# Altium footprint library RD_PCB_TEST.PcbLib: 37 footprints (part 1 of 3)
Each footprint in its own frame and in the unit in brackets; x right, y up, seen from the top. Pads: shape width x height; smd on the part's side, far side on the other; paste and mask are expansions set on the pad; w line width, h text height; cw(c..) or ccw(c..) is an arc to the next point about the centre after c.
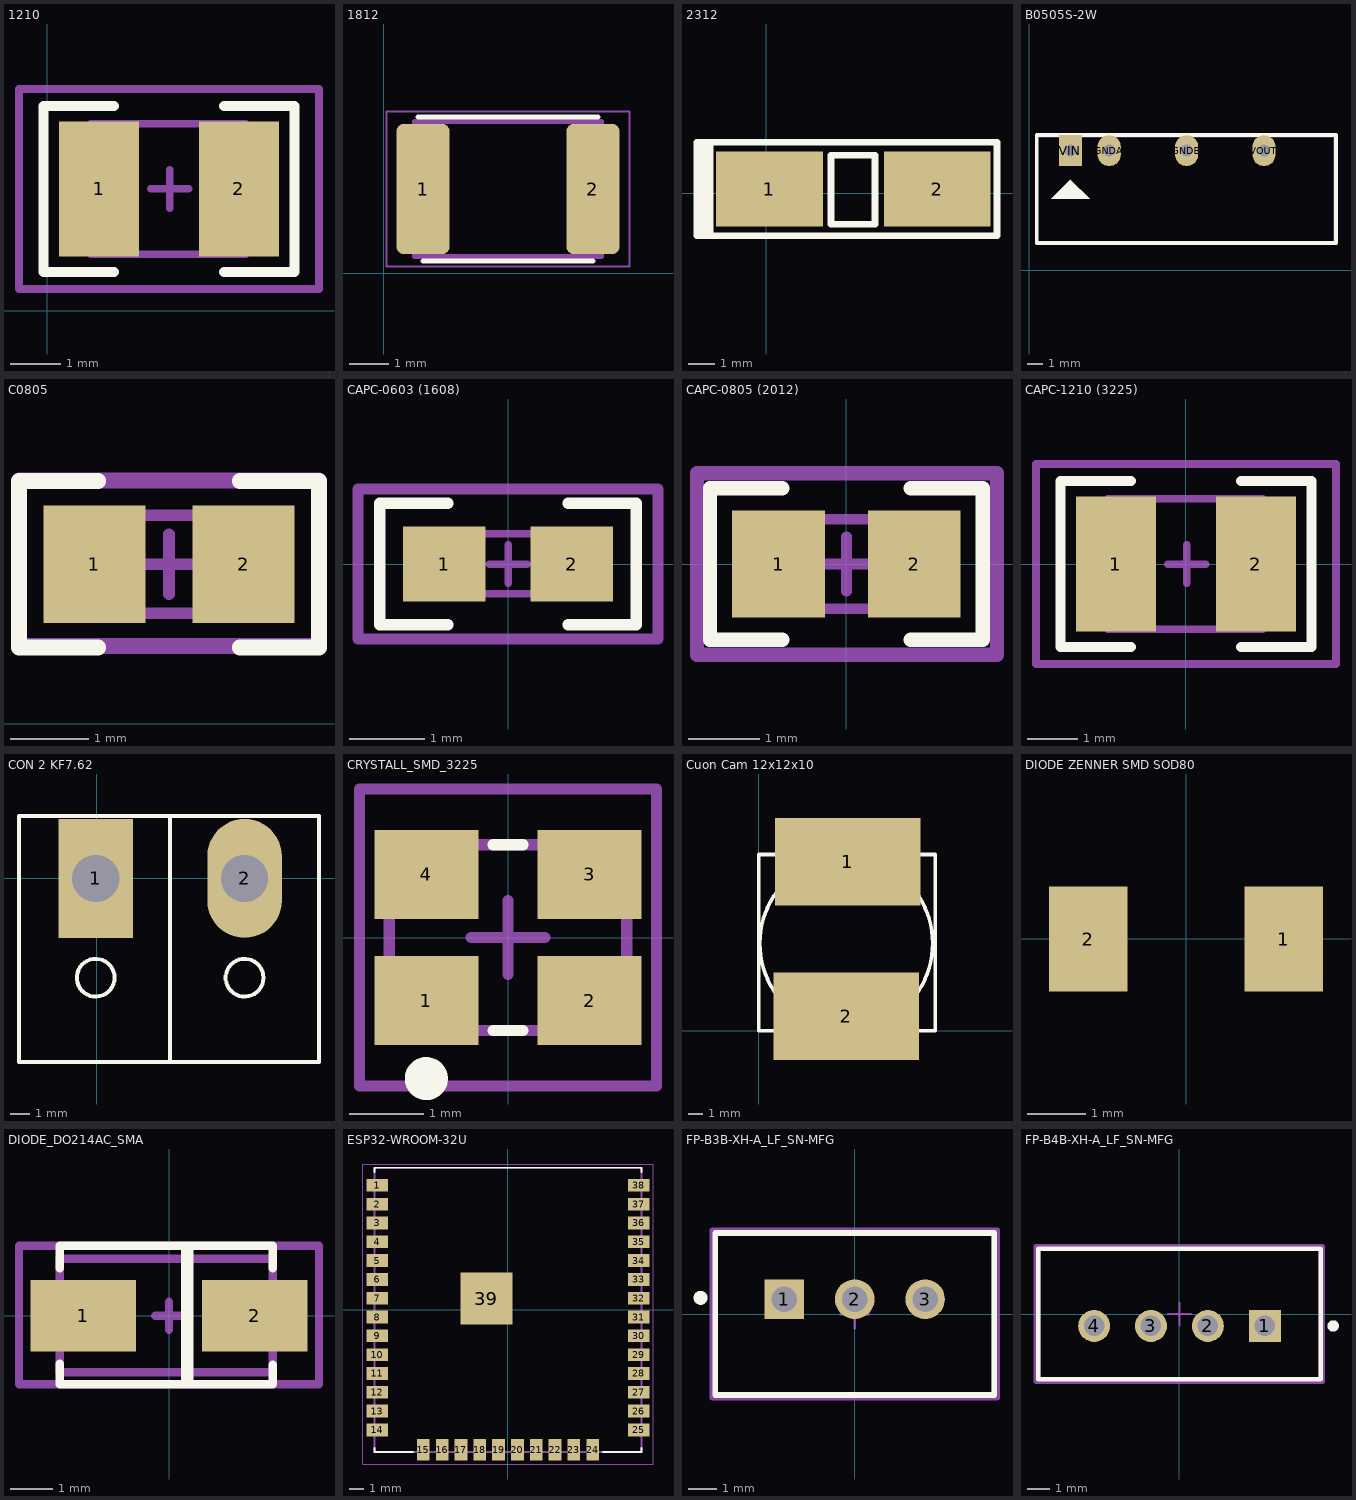
[diagram p0: the footprints below, top view; thin cyan lines are the x and y axes]

## 1210 [mm]
height 0.55
pads (2):
  rect 1.6x2.7 smd: 1(1.038,2.438) 2(3.838,2.438)
Top Overlay:
  lines w0.2: 1.338,0.778 -0.072,0.778 -0.072,4.098 1.338,4.098 ; 3.538,0.778 4.948,0.778 4.948,4.098 3.538,4.098
Top 3D Body:
  lines w0.15: 2.07,2.438 2.832,2.438 ; 2.451,2.057 2.451,2.819 ; 0.876,1.138 3.976,1.138 3.976,3.738 0.876,3.738 0.876,1.138
Top Courtyard:
  lines w0.158: -0.562,0.438 5.438,0.438 5.438,4.438 -0.562,4.438 -0.562,0.438
3D body "User Library-CAPC3225X13.STEP": height 1.3, standoff 0, extent 0.851,1.176 4.051,3.676

## 1812 [mm]
height 0.55
pads (2):
  rrect25% 1.34x3.29 smd: 1(1,2.134) 2(5.3,2.134)
Top Overlay:
  lines w0.127: 0.87,3.959 5.43,3.959 ; 1,0.309 5.3,0.309
Top 3D Body:
  lines w0.127: 0.78,0.424 5.52,0.424 5.52,3.844 0.78,3.844 0.78,0.424
Top Courtyard:
  lines w0.05: 0.08,0.174 6.22,0.174 6.22,4.094 0.08,4.094 0.08,0.174
3D body "step_temp.STEP": height 1.25, standoff 0, extent 0.875,0.514 5.425,3.754

## 2312 [mm]
height 0.55
pads (2):
  rect 4x2.8 smd: 1(0.127,0.152) 2(6.427,0.152)
Top Overlay:
  lines w0.254: -2.591,-1.6 -2.21,-1.6 ; -2.591,-1.598 -2.591,1.902 ; -2.591,1.905 -2.286,1.905 ; -2.337,-1.598 -2.337,1.902 ; -2.286,-1.598 8.661,-1.598 8.661,1.902 -2.286,1.902 ; -2.108,-1.598 -2.108,1.902 ; 2.438,-1.168 2.438,1.422 4.089,1.422 4.089,-1.168 2.438,-1.168
3D body "CAP_TANT_6032-28_y.step": height 2.79, standoff -0.01, extent 0.127,-1.597 6.427,1.903

## B0505S-2W [mil]
height 21.65
pads (4):
  oval 60x80 hole 31.5: GNDA(207,309) GNDB(407,309) VOUT(607,309)
  rect 60x80 hole 31.5: VIN(107,309)
Top Overlay:
  region: 57,184.43 157,184.43 107,234.43
  lines w10: 20,70.43 793,70.43 793,349.43 20,349.43 20,339.43 20,70.43
Top 3D Body:
  lines w6: 18,70.84 18,346.43 789.65,346.43 789.65,70.84 18,70.84
3D body "MORNSUN_BxxxxS-2WR2.step": height 415, standoff -146.42, extent 21.19,68 794.81,345.56

## C0805 [mm]
height 0.55
pads (2):
  rect 1.3x1.5 smd: 1(2.352,2.032) 2(4.252,2.032)
Top Overlay:
  lines w0.2: 2.402,0.972 1.392,0.972 1.392,3.092 2.402,3.092 ; 4.202,0.972 5.212,0.972 5.212,3.092 4.202,3.092
Top 3D Body:
  lines w0.15: 2.921,2.032 3.683,2.032 ; 3.302,1.651 3.302,2.413 ; 2.299,1.407 2.299,2.657 4.299,2.657 4.299,1.407 2.299,1.407
Top Courtyard:
  lines w0.2: 1.397,0.991 1.397,3.099 5.207,3.099 5.207,0.991 1.397,0.991
3D body "CAPC200X125X70L50.STEP": height 0.7, standoff 0, extent 2.302,1.407 4.302,2.657

## CAPC-0603 (1608) [mm] "Resistor, Chip; 1.60 mm L X 0.80 mm W X 0.50 mm H body"
height 0.5
pads (2):
  rect 1.1x1 smd mask+0.1: 1(-0.85,0) 2(0.85,0)
Top Overlay:
  lines w0.15: -0.8,-0.81 -1.71,-0.81 -1.71,0.81 -0.8,0.81 ; 0.8,-0.81 1.71,-0.81 1.71,0.81 0.8,0.81
Top 3D Body:
  lines w0.1: -0.253,0 0.255,0 ; 0.001,-0.254 0.001,0.254 ; -0.799,-0.4 -0.799,0.4 0.801,0.4 0.801,-0.4 -0.799,-0.4
Top Courtyard:
  lines w0.15: -2,-1 -2,1 2,1 2,-1 -2,-1
  text ".Designator" at -1.015,-0.305 h1.2
3D body "CAPC160X80X60L40.STEP": height 0.6, standoff 0, extent -0.799,-0.4 0.801,0.4

## CAPC-0805 (2012) [mm] "Resistor, Chip; 2.00 mm L X 1.25 mm W X 0.70 mm H body"
height 0.7
pads (2):
  rect 1.3x1.5 smd: 1(-0.95,0) 2(0.95,0)
Top Overlay:
  lines w0.2: -0.9,-1.06 -1.91,-1.06 -1.91,1.06 -0.9,1.06 ; 0.9,-1.06 1.91,-1.06 1.91,1.06 0.9,1.06
Top 3D Body:
  lines w0.15: -0.381,0 0.381,0 ; 0,-0.381 0,0.381 ; -1.003,-0.625 -1.003,0.625 0.997,0.625 0.997,-0.625 -1.003,-0.625
Top Courtyard:
  lines w0.2: -2.093,-1.27 -2.093,1.27 2.108,1.27 2.108,-1.27 -2.093,-1.27
  text ".Designator" at -1.527,-0.381 h0.76
3D body "CAPC200X125X70L50.STEP": height 0.7, standoff 0, extent -1,-0.625 1,0.625

## CAPC-1210 (3225) [mm] "Resistor, Chip; 3.10 mm L X 2.60 mm W X 0.90 mm H body"
height 0.9
pads (2):
  rect 1.6x2.7 smd: 1(-1.4,0) 2(1.4,0)
Top Overlay:
  lines w0.2: -1.1,-1.66 -2.51,-1.66 -2.51,1.66 -1.1,1.66 ; 1.1,-1.66 2.51,-1.66 2.51,1.66 1.1,1.66
Top 3D Body:
  lines w0.15: -0.368,0 0.394,0 ; 0.013,-0.381 0.013,0.381 ; -1.563,-1.3 -1.563,1.3 1.537,1.3 1.537,-1.3 -1.563,-1.3
Top Courtyard:
  lines w0.158: -3,-2 -3,2 3,2 3,-2 -3,-2
  text ".Designator" at -1.816,-0.635 h0.76
3D body "User Library-CAPC3225X13.STEP": height 1.3, standoff 0, extent -1.587,-1.263 1.613,1.237

## CON 2 KF7.62 [mil]
height 559.06
pads (2):
  rect 150x240 hole 95: 1(-2,0)
  oval 150x240 hole 95: 2(298,0)
Top Overlay:
  circle w8: c-2,-200 r38.08
  circle w8: c298,-200 r38.08
  lines w7.87: 148,-368.06 148,126 ; -156.54,-370 -156.54,-339.27 -156.54,126 448,126 448,-370 -156.54,-370
3D body "Con 2 KF7.62.step": height 492.61, standoff -245.58, extent -152,-370 448,122.12

## CRYSTALL_SMD_3225 [mm]
height 2
pads (4):
  rect 1.4x1.2 smd: 1(-1.1,-0.85) 2(1.1,-0.85) 3(1.1,0.85) 4(-1.1,0.85)
Top Overlay:
  circle w0.3: c-1.1,-1.9 r0.14
  lines w0.15: -0.2,-1.25 0.2,-1.25 ; -0.2,1.25 0.2,1.25
Top 3D Body:
  lines w0.15: -0.5,0 0.5,0 ; 0,-0.5 0,0.5 ; -1.6,-1.25 1.6,-1.25 1.6,1.25 -1.6,1.25 -1.6,-1.25
Top Courtyard:
  lines w0.15: -2,-2 -2,2 2,2 2,-2 -2,-2
  text ".Designator" at -1.3,-0.6 h0.76
3D body "User Library-3225-1.x_t": height 0.61, standoff 0, extent -1.6,-1.25 1.6,1.25

## Cuon Cam 12x12x10 [mm] "Cuon Cam 12x12x10"
height 0.55
pads (2):
  rect 10x6 smd: 1(6.1,11.6) 2(6,1)
Top Overlay:
  circle w0.254: c6,6 r5.941
  lines w0.254: 0,0 0,12.1 12.1,12.1 12.1,9.2 12.1,0 0,0
3D body "CUON CAM CDRH127 3A SMD.step": height 7.51, standoff 0.06, extent 0.096,-0.202 12.096,12.14

## DIODE ZENNER SMD SOD80 [mm] "SOD80"
height 2
pads (2):
  rect 1.35x1.8 smd: 1(1.675,0) 2(-1.675,0)
3D body "User Library-Diode MELF.step": height 1.45, standoff -0.05, extent -1.75,-0.762 1.75,0.736

## DIODE_DO214AC_SMA [mm] "Diode 2214AC- SMA type"
height 0.55
pads (2):
  rect 2.5x1.7 smd: 1(-2.032,0) 2(2.032,0)
Top Overlay:
  rectangle: 0.279,-1.626 0.584,1.702
  lines w0.2: -2.591,-1.143 -2.591,-1.626 2.464,-1.626 2.464,-1.168 ; -2.591,1.118 -2.591,1.651 2.464,1.651 2.464,1.118
Top 3D Body:
  lines w0.2: -0.33,0 0.33,0 ; 0,-0.33 0,0.33 ; -2.591,-1.346 -2.591,1.346 2.463,1.346 2.463,-1.346 -2.591,-1.346
Top Courtyard:
  lines w0.2: -3.556,-1.626 3.556,-1.626 3.556,1.651 -3.556,1.651 -3.556,-1.626
  text ".Designator" at -3.099,-0.584 h0.76
3D body "User Library-DO-214AC_SMA.STEP": height 2.25, standoff 0.05, extent -2.528,-1.35 2.472,1.35

## ESP32-WROOM-32U [mm]
height 0.55
pads (39):
  rect 1.45x0.86 smd: 1(-8.83,8.41) 2(-8.83,7.14) 3(-8.83,5.87) 4(-8.83,4.6) 5(-8.83,3.33) 6(-8.83,2.06) 7(-8.83,0.79) 8(-8.83,-0.48) 9(-8.83,-1.75) 10(-8.83,-3.02) 11(-8.83,-4.29) 12(-8.83,-5.56) 13(-8.83,-6.83) 14(-8.83,-8.1) 25(8.83,-8.1) 26(8.83,-6.83) 27(8.83,-5.56) 28(8.83,-4.29) 29(8.83,-3.02) 30(8.83,-1.75) 31(8.83,-0.48) 32(8.83,0.79) 33(8.83,2.06) 34(8.83,3.33) 35(8.83,4.6) 36(8.83,5.87) 37(8.83,7.14) 38(8.83,8.41)
  rect 0.86x1.45 smd: 15(-5.715,-9.43) 16(-4.445,-9.43) 17(-3.175,-9.43) 18(-1.905,-9.43) 19(-0.635,-9.43) 20(0.635,-9.43) 21(1.905,-9.43) 22(3.175,-9.43) 23(4.445,-9.43) 24(5.715,-9.43)
  rect 3.5x3.5 smd: 39(-1.46,0.77)
Top Overlay:
  lines w0.127: -9,-9.3 -9,-9.6 -6.4,-9.6 ; -9,9.3 -9,9.6 9,9.6 9,9.3 ; 6.4,-9.6 9,-9.6 9,-9.3
Mechanical 4:
  lines w0.127: -9,-9.6 -9,9.6 ; -9,-9.6 9,-9.6 ; -9,-9.6 -9,9.6 ; -9,-9.6 9,-9.6 ; -9,9.6 9,9.6 ; -9,9.6 9,9.6 ; 9,-9.6 9,9.6 ; 9,-9.6 9,9.6
Bottom Courtyard:
  lines w0.05: -9.8,-10.4 -9.8,9.85 9.8,9.85 9.8,-10.4 -9.8,-10.4
3D body "ESp32-WROOM-32U v3.step": height 3.4, standoff -0.04, extent -9.035,-9.64 9.035,9.6

## FP-B3B-XH-A_LF_SN-MFG [mm]
pads (3):
  rect 1.4x1.4 hole 0.9 paste+0 mask+0: 1(-2.5,0.525)
  round 1.4 hole 0.9 paste+0 mask+0: 2(0,0.525) 3(2.5,0.525)
Top Overlay:
  circle w0.25: c-5.475,0.575 r0.125
  lines w0.2: -4.95,-2.875 4.95,-2.875 4.95,2.875 -4.95,2.875 -4.95,-2.875
Top Component Center:
  lines w0.1: -0.5,0 0.5,0 ; 0,-0.5 0,0.5
Top Assembly:
  lines w0.2: -5.05,-2.975 5.05,-2.975 5.05,2.975 -5.05,2.975 -5.05,-2.975
  text ".Designator" at 0,-0.001 h1
Top 3D Body:
  lines w0.2: -4.95,-2.875 4.95,-2.875 4.95,2.875 -4.95,2.875 -4.95,-2.875
Top Courtyard:
  lines w0.2: -5.05,-2.975 5.05,-2.975 5.05,2.975 -5.05,2.975 -5.05,-2.975
3D body "Conn_JST_B3B-XH-A_LF_SN_eec.STEP": height 0.25, standoff 0, extent -5.05,-2.975 5.05,2.975

## FP-B4B-XH-A_LF_SN-MFG [mm]
pads (4):
  rect 1.4x1.4 hole 0.9 paste+0 mask+0: 1(3.75,-0.525)
  round 1.4 hole 0.9 paste+0 mask+0: 2(1.25,-0.525) 3(-1.25,-0.525) 4(-3.75,-0.525)
Top Overlay:
  circle w0.25: c6.75,-0.525 r0.125
  lines w0.2: -6.2,-2.875 6.2,-2.875 6.2,2.875 -6.2,2.875 -6.2,-2.875
Top Component Center:
  lines w0.1: -0.5,0 0.5,0 ; 0,-0.5 0,0.5
Top Assembly:
  lines w0.2: -6.3,-2.975 6.3,-2.975 6.3,2.975 -6.3,2.975 -6.3,-2.975
  text ".Designator" at 0,0.188 h1
Top 3D Body:
  lines w0.2: -6.2,-2.875 6.2,-2.875 6.2,2.875 -6.2,2.875 -6.2,-2.875
Top Courtyard:
  lines w0.2: -6.3,-2.975 6.3,-2.975 6.3,2.975 -6.3,2.975 -6.3,-2.975
3D body "Conn_JST_B4B-XH-A_LF_SN_eec.STEP": height 7, standoff -3.4, extent -6.2,-2.876 6.201,2.875